# EAGLE library part MAX9934TAUA+T (library MAX9934)
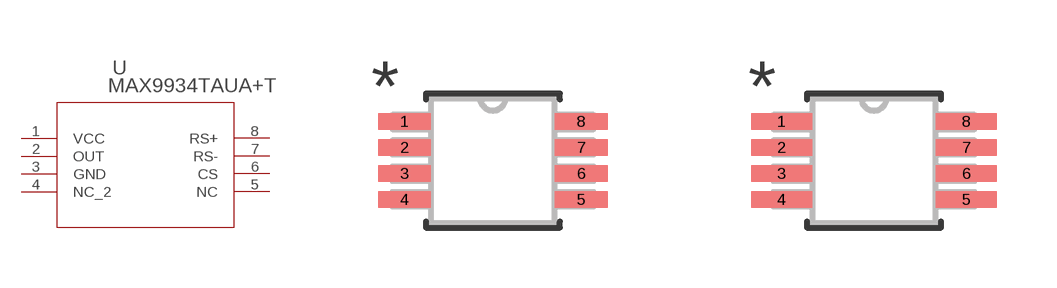
[diagram p2: symbol with the pads of 21-0036K_MXM; footprints 21-0036K_MXM, 21-0036K_MXM-M]

Designator prefix U

## MAX9934TAUA+T (COPYRIGHT: Copyright (C) 2023 Ultra Librarian. All rights reserved.; MANUFACTURER_PART_NUMBER: MAX9934TAUA+T; MFR_NAME: Analog Devices Inc)  [21-0036K_MXM]
1  VCC  pwr
2  OUT  out
3  GND  pwr
4  NC_2  nc
5  NC  nc
6  CS  in
7  RS-  pas
8  RS+  pas

## MAX9934TAUA+T21-0036K_MXM-M (COPYRIGHT: Copyright (C) 2023 Ultra Librarian. All rights reserved.; MANUFACTURER_PART_NUMBER: MAX9934TAUA+T; MFR_NAME: Analog Devices Inc)  [21-0036K_MXM-M]
Pads as for 21-0036K_MXM

## MAX9934TAUA+T21-0036K_MXM-L (COPYRIGHT: Copyright (C) 2023 Ultra Librarian. All rights reserved.; MANUFACTURER_PART_NUMBER: MAX9934TAUA+T; MFR_NAME: Analog Devices Inc)  [21-0036K_MXM-L]
Pads as for 21-0036K_MXM

## Footprint 21-0036K_MXM (pad centres in mm)
smd 1.321 x 0.406: 1 -2.21,0.975; 2 -2.21,0.325; 3 -2.21,-0.325; 4 -2.21,-0.975; 5 2.21,-0.975; 6 2.21,-0.325; 7 2.21,0.325; 8 2.21,0.975

## Footprint 21-0036K_MXM-M (pad centres in mm)
smd 1.524 x 0.406: 1 -2.311,0.975; 2 -2.311,0.325; 3 -2.311,-0.325; 4 -2.311,-0.975; 5 2.311,-0.975; 6 2.311,-0.325; 7 2.311,0.325; 8 2.311,0.975

## Footprint 21-0036K_MXM-L (pad centres in mm)
smd 1.067 x 0.356: 1 -2.134,0.975; 2 -2.134,0.325; 3 -2.134,-0.325; 4 -2.134,-0.975; 5 2.134,-0.975; 6 2.134,-0.325; 7 2.134,0.325; 8 2.134,0.975